# Altium integrated library TSW-103-07-F-D.IntLib: 1 symbol
Pins are listed as number, name and electrical type; pins without a type are passive.

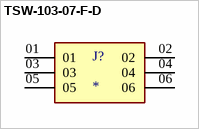
[diagram p0: symbol TSW-103-07-F-D]

## TSW-103-07-F-D
designator J?
MP: TSW-103-07-F-D; MF: Samtec; Package: None; Availability: Unavailable; Value: *; Price: None
footprint SAMTEC_TSW-103-07-F-D
pins: 01, 02, 03, 04, 05, 06